# EAGLE library part MCP1253 (library Microchip)
Low Noise, Positive- Regulated Charge Pump
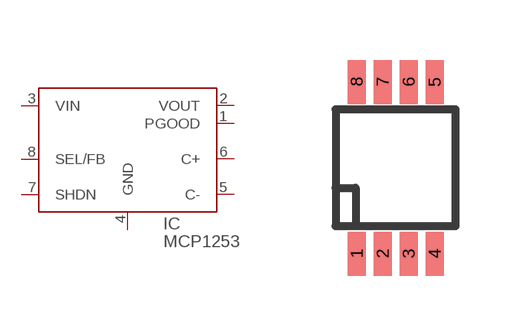
[diagram p7: symbol with the pads of MSOP8-MS; footprint MSOP8-MS]

Designator prefix IC

## MCP1253MS  [MSOP8-MS]
1  PGOOD
2  VOUT
3  VIN
4  GND
5  C-
6  C+
7  SHDN
8  SEL/FB

## Footprint MSOP8-MS (pad centres in mm)
8-Lead Plastic Micro Small Outline Package (MSOP), Microchip package MS
smd 0.45 x 1.1: 1 -0.975,-2.15; 2 -0.325,-2.15; 3 0.325,-2.15; 4 0.975,-2.15; 5 0.975,2.15; 6 0.325,2.15; 7 -0.325,2.15; 8 -0.975,2.15